# Altium schematic symbol library PCB_Project.SCHLIB: 18 symbols
Pins are listed as number, name and electrical type; pins without a type are passive.

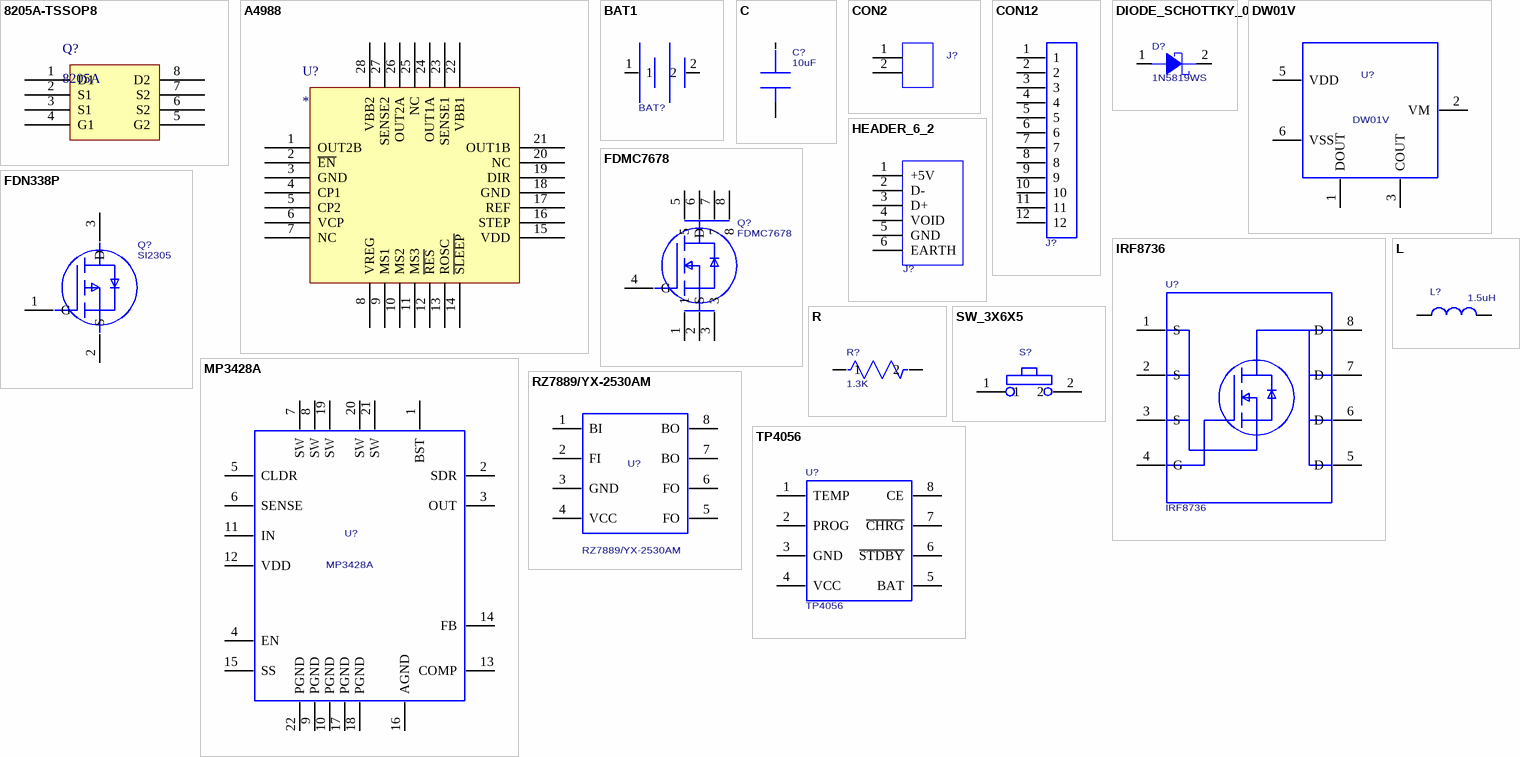
[diagram p0: symbols 8205A-TSSOP8 to TP4056]

## 8205A-TSSOP8
designator Q?, comment 8205A
footprint TSSOP8 (Footprint not found)
pins: 1 D1, 2 S1, 3 S1, 4 G1, 5 G2, 6 S2, 7 S2, 8 D2

## A4988
designator U?
pins: 1 OUT2B, 2 ~{EN}, 3 GND, 4 CP1, 5 CP2, 6 VCP, 7 NC, 8 VREG, 9 MS1, 10 MS2, 11 MS3, 12 ~{RES}, 13 ROSC, 14 ~{SLEEP}, 15 VDD, 16 STEP, 17 REF, 18 GND, 19 DIR, 20 NC, 21 OUT1B, 22 VBB1, 23 SENSE1, 24 OUT1A, 25 NC, 26 OUT2A, 27 SENSE2, 28 VBB2

## BAT1
designator BAT?  (value not drawn)
PCB DECAL: BAT18650_DIP2; Value: CR2025
footprint BAT18650_DIP2
pins: 1, 2

## C
designator C?, comment 10uF
PCB DECAL: C0603
footprint C0603
pins: 1, 2

## CON2
designator J?  (value not drawn)
PCB DECAL: CON1X2-2R54; SIGPIN3: GND; SIGPIN4: GND
footprint CON1X2-2LOCK
pins: 1, 2

## CON12
designator J?  (value not drawn)
PCB DECAL: CON_12WT; SIGPIN13: GND; Value: con12; SIGPIN14: GND
footprint CON_12WT
pins: 1, 2, 3, 4, 5, 6, 7, 8, 9, 10, 11, 12

## DIODE_SCHOTTKY_0
designator D?, comment 1N5819WS
PCB DECAL: SOD-323; Source Path: F:\无线AP\设计文件\8月8日\WIRELESS AP.DSN; Value: 1N5819WS
footprint SOD-323
pins: 1 ANODE, 2 CATHODE

## DW01V
designator U?
PCB DECAL: SOT23-6
footprint SOT23-6
pins: 1 DOUT, 2 VM, 3 COUT, 5 VDD, 6 VSS

## FDMC7678
designator Q?
PCB DECAL: FDMC7678
footprint FDMC7678
pins: 1, 2 S, 3, 4 G, 5, 6 D, 7, 8

## FDN338P
designator Q?, comment SI2305
PCB DECAL: SOT23; Value: SI2305
footprint SOT23
pins: 1 G, 2 S, 3 D

## HEADER_6_2
designator J?  (value not drawn)
VALUE: USB; PCB DECAL: MICRO_USB_J; SIGPIN7: GND; SIGPIN8: GND; SIGPIN9: GND; SIGPIN10: GND; SIGPIN11: GND
footprint MICRO_USB_J
pins: 1 +5V, 2 D-, 3 D+, 4 VOID, 5 GND, 6 EARTH

## IRF8736
designator U?
PCB DECAL: SO8-5R2-1R27
footprint SO8-5R2-1R27
pins: 1 S, 2 S, 3 S, 4 G, 5 D, 6 D, 7 D, 8 D

## L
designator L?, comment 1.5uH
PCB DECAL: L0630
footprint L0630
pins: 1, 2

## MP3428A
designator U?
PCB DECAL: QFN22
footprint QFN22
pins: 1 BST, 2 SDR, 3 OUT, 4 EN, 5 CLDR, 6 SENSE, 7 SW, 8 SW, 9 PGND, 10 PGND, 11 IN, 12 VDD, 13 COMP, 14 FB, 15 SS, 16 AGND, 17 PGND, 18 PGND, 19 SW, 20 SW, 21 SW, 22 PGND

## R
designator R?, comment 1.3K
PCB DECAL: R0402
footprint R0603
pins: 1, 2

## RZ7889/YX-2530AM
designator U?
PCB DECAL: SO8-5R2-1R27
footprint SO8-5R2-1R27
pins: 1 BI, 2 FI, 3 GND, 4 VCC, 5 FO, 6 FO, 7 BO, 8 BO

## SW_3X6X5
designator S?  (value not drawn)
PCB DECAL: SW3X6X3R5; SIGPIN3: GND; SIGPIN4: GND
footprint SW3X6X3R5
pins: 1, 2

## TP4056
designator U?
PCB DECAL: SOIC8E; SIGPIN9: GND
footprint SOIC8E
pins: 1 TEMP, 2 PROG, 3 GND, 4 VCC, 5 BAT, 6 ~{STDBY}, 7 ~{CHRG}, 8 CE